# Altium footprint library cardio_pcb.PcbLib: 25 footprints (part 2 of 2)
Each footprint in its own frame and in the unit in brackets; x right, y up, seen from the top. Pads: shape width x height; smd on the part's side, far side on the other; paste and mask are expansions set on the pad; w line width, h text height; cw(c..) or ccw(c..) is an arc to the next point about the centre after c.
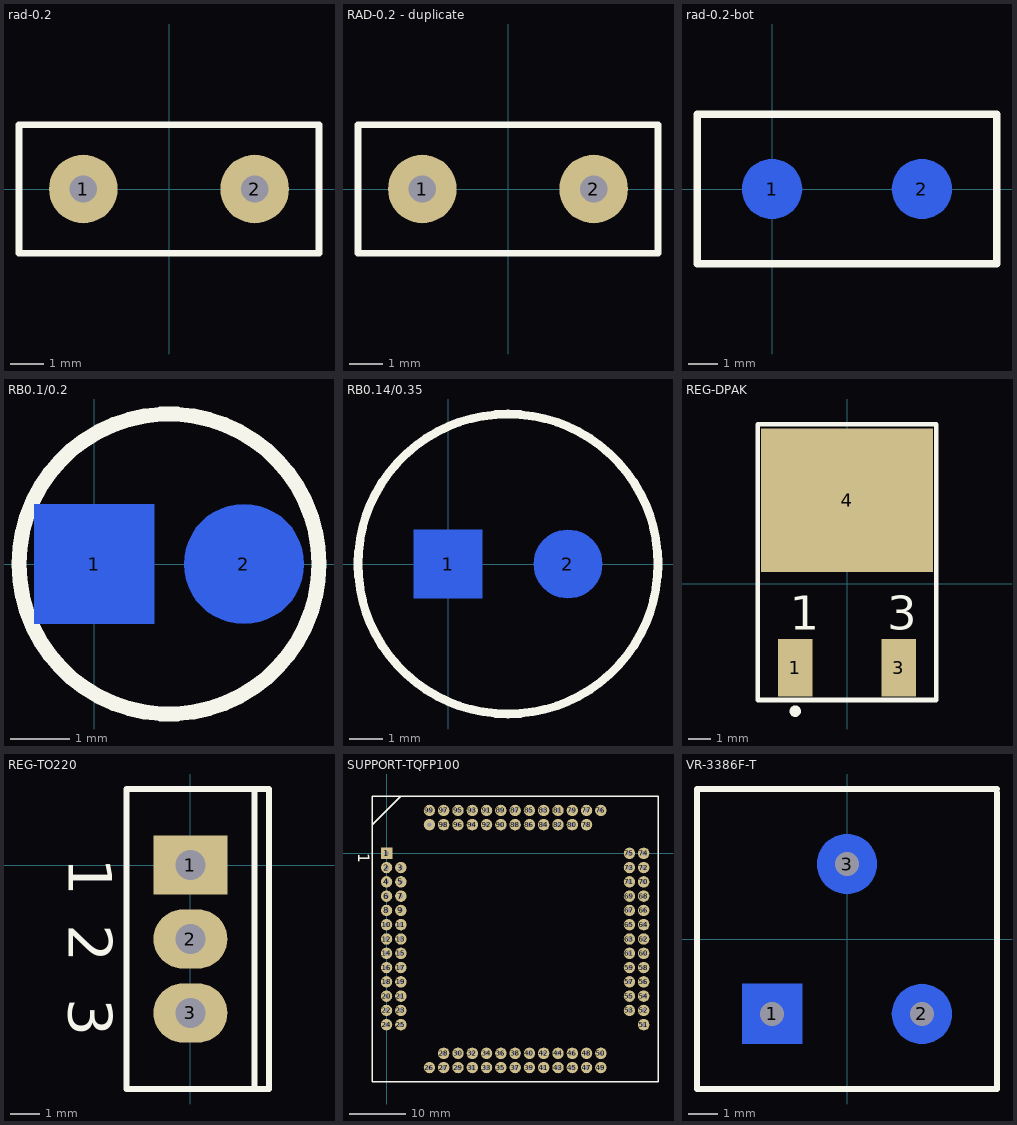
[diagram p1: the footprints below, top view; thin cyan lines are the x and y axes]

## rad-0.2 [mil] "Radial Cap, Thru-Hole; 2 Leads; 0.2 in Pin Spacing"
pads (2):
  round 80 hole 32: 1(-100,0) 2(100,0)
Top Overlay:
  lines w7.87: -175,-75 175,-75 175,75 -175,75 -175,-75

## RAD-0.2 - duplicate [mil]
pads (2):
  round 80 hole 32: 1(-100,0) 2(100,0)
Top Overlay:
  lines w7.87: -175,-75 175,-75 175,75 -175,75 -175,-75

## rad-0.2-bot [mil]
pads (2):
  round 80 smd far side: 1(0,0) 2(200,0)
Top Layer:
  circle w20: c0,0 r26
  circle w20: c200,0 r26
Top Overlay:
  lines w10: -100,-100 -100,100 300,100 300,-100 -100,-100

## RB0.1/0.2 [mil] "Capa < 100uF Footprint"
pads (2):
  rect 80x80 smd far side: 1(0,0)
  round 80 smd far side: 2(100,0)
Top Layer:
  circle w20: c100,0 r26
  circle w20: c0,0 r26
Top Overlay:
  circle w10: c50,0 r100

## RB0.14/0.35 [mil] "Capa <470 uF footprint"
pads (2):
  rect 80x80 smd far side: 1(0,0)
  round 80 smd far side: 2(140,0)
Top Layer:
  circle w20: c0,0 r26
  circle w20: c140,0 r26
Top Overlay:
  circle w10: c70,0 r175

## REG-DPAK [mm]
pads (3):
  rect 1.524x2.54 smd: 1(-2.285,-3.7) 3(2.285,-3.7)
  rect 7.62x6.35 smd: 4(0,3.7)
Top Overlay:
  circle w0.25: c-2.29,-5.625 r0.125
  lines w0.2: -3.937,7.025 -3.937,-5.131 3.937,-5.131 ; -3.937,7.061 3.937,7.061 3.937,-5.105
  text "3" at 1.788,-2.017 h1.5
  text "1" at -2.54,-2.017 h1.5

## REG-TO220 [mil]
pads (3):
  rect 100x80 hole 40: 1(0,0)
  oval 100x80 hole 40: 2(0,-100) 3(0,-200)
Top Overlay:
  lines w7.87: 86.61,-302.76 86.61,102.76 ; -86.61,-302.76 -86.61,102.76 106.3,102.76 106.3,-302.76 -86.61,-302.76
  text "1" at -164.37,9.84 h59.06
  text "2" at -164.37,-80.31 h59.06
  text "3" at -164.37,-180.31 h59.06

## SUPPORT-TQFP100 [mil]
pads (100):
  rect 80x80 hole 32: 1(0,0)
  round 80 hole 32: 2(0,-100) 3(100,-100) 4(0,-200) 5(100,-200) 6(0,-300) 7(100,-300) 8(0,-400) 9(100,-400) 10(0,-500) 11(100,-500) 12(0,-600) 13(100,-600) 14(0,-700) 15(100,-700) 16(0,-800) 17(100,-800) 18(0,-900) 19(100,-900) 20(0,-1000) 21(100,-1000) 22(0,-1100) 23(100,-1100) 24(0,-1200) 25(100,-1200) 26(300,-1500) 27(400,-1500) 28(400,-1400) 29(500,-1500) 30(500,-1400) 31(600,-1500) 32(600,-1400) 33(700,-1500) 34(700,-1400) 35(800,-1500) 36(800,-1400) 37(900,-1500) 38(900,-1400) 39(1000,-1500) 40(1000,-1400) 41(1100,-1500) 42(1100,-1400) 43(1200,-1500) 44(1200,-1400) 45(1300,-1500) 46(1300,-1400) 47(1400,-1500) 48(1400,-1400) 49(1500,-1500) 50(1500,-1400) 51(1800,-1200) 52(1800,-1100) 53(1700,-1100) 54(1800,-1000) 55(1700,-1000) 56(1800,-900) 57(1700,-900) 58(1800,-800) 59(1700,-800) 60(1800,-700) 61(1700,-700) 62(1800,-600) 63(1700,-600) 64(1800,-500) 65(1700,-500) 66(1800,-400) 67(1700,-400) 68(1800,-300) 69(1700,-300) 70(1800,-200) 71(1700,-200) 72(1800,-100) 73(1700,-100) 74(1800,0) 75(1700,0) 76(1500,300) 77(1400,300) 78(1400,200) 79(1300,300) 80(1300,200) 81(1200,300) 82(1200,200) 83(1100,300) 84(1100,200) 85(1000,300) 86(1000,200) 87(900,300) 88(900,200) 89(800,300) 90(800,200) 91(700,300) 92(700,200) 93(600,300) 94(600,200) 95(500,300) 96(500,200) 97(400,300) 98(400,200) 99(300,300) 100(300,200)
Top Overlay:
  lines w10: -100,200 100,400 ; -100,-1600 -100,400 1900,400 1900,-1600 -100,-1600
  text "1" at -200,0 h80

## VR-3386F-T [mil] "TRIMMER serie 3386F-T"
pads (3):
  rect 80x80 on Bottom hole 32: 1(-100,-100)
  round 80 on Bottom hole 32: 2(100,-100) 3(0,100)
Top Layer:
  circle w20: c100,-100 r26
  circle w20: c-100,-100 r26
  circle w20: c0,100 r26
Top Overlay:
  lines w7.87: 200,195 200,-200 -200,-200 -200,200 200,200